# Altium schematic symbol library ADP_PassiveLib.SchLib: 13 symbols
Pins are listed as number, name and electrical type; pins without a type are passive.

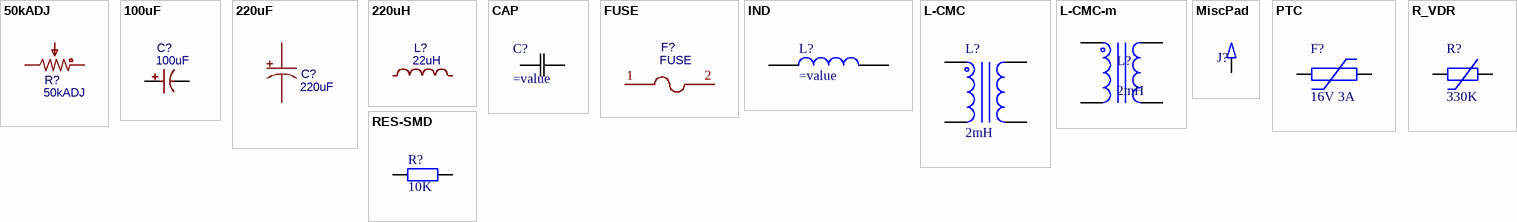
[diagram p0: symbols 50kADJ to RES-SMD]

## 50kADJ
designator R?
精密电位器; BOM_Manufacturer: Chengdu Guosheng Tech; BOM_Manufacturer Part: 3296W-1-503; Resistance(Ohms): 50K; nameAlias: Resistance (Ohms); Contributor: LCSC; BOM_Paste Type: expand; BOM_Assembly Type: manualWeld; BOM_Supplier: LCSC; BOM_Supplier Part: C118911; spicePre: R; spiceSymbolName: 3296W-1-503
footprint 50kADJ
pins: 1, 2, 3

## 100uF
designator C?
贴片铝电解电容; BOM_Manufacturer: HONOR; BOM_Manufacturer Part: RVT1H101M0810; nameAlias: Capacitance; BOM_Supplier: LCSC; BOM_Supplier Part: C3352; spicePre: C; spiceSymbolName: RVT1H101M0810
footprint 100uF
pins: 1, 2

## 220uF
designator C?
贴片铝电解电容; BOM_Manufacturer: ROQANG; BOM_Manufacturer Part: VT1V221M0810; nameAlias: Capacitance; Contributor: LCSC; BOM_Supplier: LCSC; BOM_Supplier Part: C310848; spicePre: C; spiceSymbolName: VT1V221M0810
footprint 220uF
pins: 1, 2

## 220uH
designator L?, comment 22uH
功率固态电感; BOM_Manufacturer: Sunltech Tech; BOM_Manufacturer Part: SLO1235H220MTT; nameAlias: Inductance; Contributor: LCSC; BOM_Supplier: LCSC; BOM_Supplier Part: C364099; spicePre: L; spiceSymbolName: SLO1235H220MTT
footprint 220uH
pins: 1, 2

## CAP
designator C?
贴片大容量电解电容; Mfr_Name: Rubycon
footprint CAP_S-V_16X16P5_RUB
footprint CAP_S-V_16X16P5_RUB-L
footprint CAP_S-V_16X16P5_RUB-M
pins: 1, 2

## FUSE
designator F?
自恢复保险丝/熔断保险丝; BOM_Manufacturer: JDTFUSE; BOM_Manufacturer Part: ASMD1812-300; Contributor: LCSC; BOM_Paste Type: recommend; BOM_Assembly Type: smtWeld; BOM_Supplier: LCSC; BOM_Supplier Part: C135366; spicePre: F; spiceSymbolName: ASMD1812-300
footprint FUSE-SMD_1206
footprint FUSE-SMD_1812
footprint FUSE-SMD_L6.1-W2.6
pins: 1, 2

## IND
designator L?
电感
footprint IND-TH_L23.0-W12.0-P8.00-D0.9
footprint IND_2520_Tai
footprint IND_IHLP-2020BZ_VIS
footprint IND_IHLP-2020BZ_VIS-L
footprint IND_IHLP-2020BZ_VIS-M
footprint IND-SMD_L4.4-W4.2
footprint IND-2520X10N (Chip Capacitor, 2-Leads, Body 2.50x2.00mm, IPC Medium Density)
pins: 1, 2

## L-CMC
designator L?, comment 2mH
共模电感; 版权归属: 源创客; BOM名称: 共模电感; 学习资源: www.ooocke.com
footprint UU9.8 (17*12*17mm(长宽高）)
footprint UU10.5 (18*16*20mm(长宽高）)
footprint UU16 (22*17.5*23mm(长宽高）)
pins: 1, 2, 3, 4

## L-CMC-m
designator L?, comment 2mH
贴片共模电感
footprint L-CMC-m
footprint B82790C0$2F$S0
pins: 1, 2, 3, 4

## MiscPad
designator J?  (value not drawn)
跳线焊盘等
footprint MiscPad
pins: 1

## PTC
designator F?, comment 16V 3A
PTC自恢复保险丝; BOM名称: PPTC自恢复保险丝; 版权归属: 源创客; 学习资源: www.ooocke.com
footprint 14D
pins: 1, 2

## R_VDR
designator R?, comment 330K
压敏电阻PTC自恢复保险丝; BOM名称: 压敏电阻; 版权归属: 源创客; 学习资源: www.ooocke.com
footprint 14D
pins: 1, 2

## RES-SMD
designator R?, comment 10K
贴片电阻; value: 10K
footprint 0402-RES (Chip Resistor, 2-Leads, Body 1.00x0.50mm, IPC Medium Density)
footprint 0603-RES
pins: 1, 2